# EAGLE library part 6N137 (library optocoupler)
MOTOROLA OPTO COUPLER
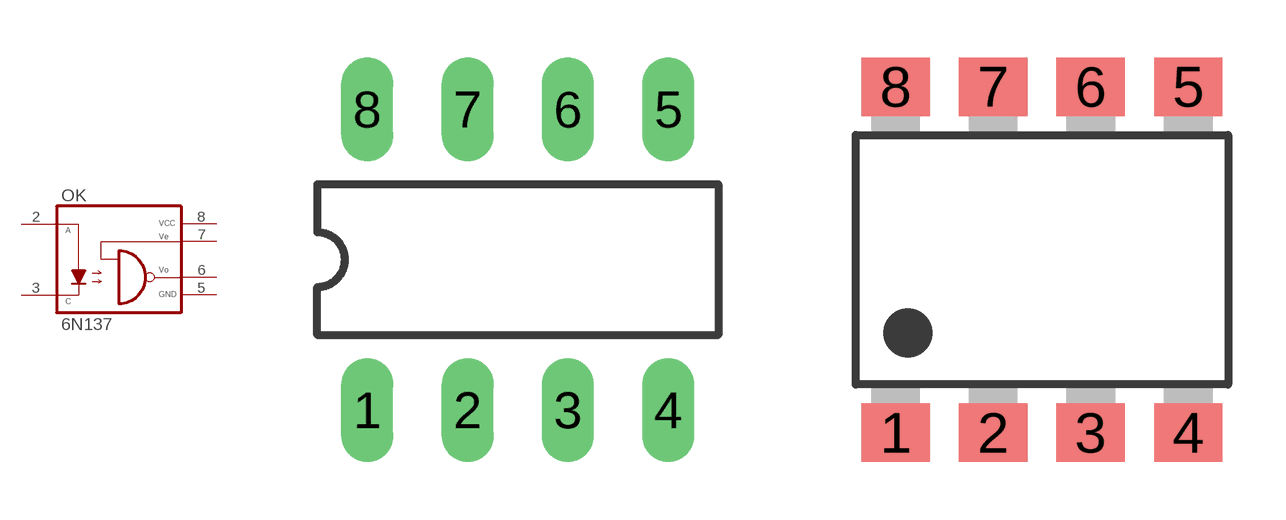
[diagram p10: symbol with the pads of DIL08; footprints DIL08, SMD8]

Designator prefix OK

## 6N137  [DIL08]
2  A  pas
3  C  pas
5  GND  pas
6  VO  pas
7  VE  pas
8  VCC  pas

## 6N137S  [SMD8]
Pads as for DIL08

## Footprint DIL08 (pad centres in mm)
Dual In Line Package
drill 0.813 long: 1 -3.81,-3.81; 2 -1.27,-3.81; 3 1.27,-3.81; 4 3.81,-3.81; 5 3.81,3.81; 6 1.27,3.81; 7 -1.27,3.81; 8 -3.81,3.81

## Footprint SMD8 (pad centres in mm)
8-SMD, Gull Wing
smd 1.778 x 1.524: 1 -3.81,-4.508; 2 -1.27,-4.508; 3 1.27,-4.508; 4 3.81,-4.508; 5 3.81,4.508; 6 1.27,4.508; 7 -1.27,4.508; 8 -3.81,4.508